# EAGLE library part NEW_LCD (library osat)
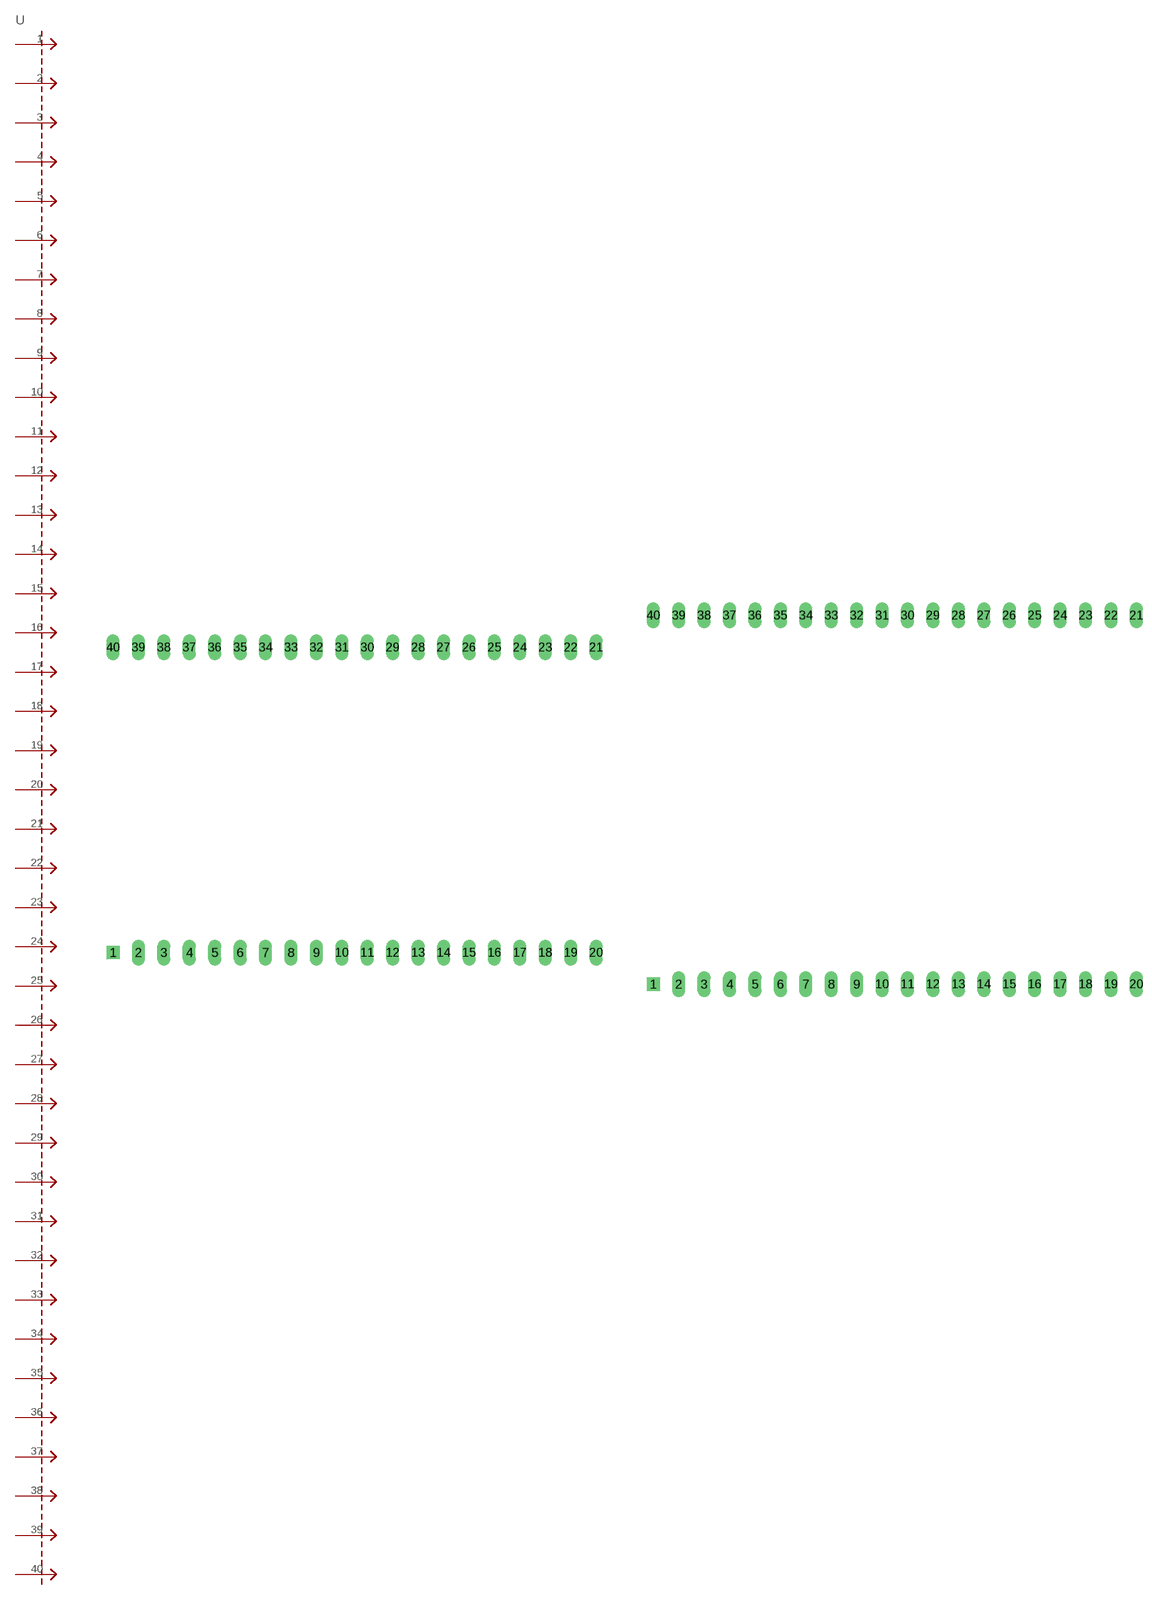
[diagram p0: symbol with the pads of NEW_LCD; footprints NEW_LCD, OLD_LCD]

Designator prefix -

## NEW_LCDNEW_LCD  [NEW_LCD]
1  P$1
2  P$2
3  P$3
4  P$4
5  P$5
6  P$6
7  P$7
8  P$8
9  P$9
10  P$10
11  P$11
12  P$12
13  P$13
14  P$14
15  P$15
16  P$16
17  P$17
18  P$18
19  P$19
20  P$20
21  P$21
22  P$22
23  P$23
24  P$24
25  P$25
26  P$26
27  P$27
28  P$28
29  P$29
30  P$30
31  P$31
32  P$32
33  P$33
34  P$34
35  P$35
36  P$36
37  P$37
38  P$38
39  P$39
40  P$40

## NEW_LCDOLD_LCD  [OLD_LCD]
Pads as for NEW_LCD

## Footprint NEW_LCD (pad centres in mm)
drill 0.8 square: 1 0,-30.48
drill 0.8 long: 2 2.54,-30.48; 3 5.08,-30.48; 4 7.62,-30.48; 5 10.16,-30.48; 6 12.7,-30.48; 7 15.24,-30.48; 8 17.78,-30.48; 9 20.32,-30.48; 10 22.86,-30.48; 11 25.4,-30.48; 12 27.94,-30.48; 13 30.48,-30.48; 14 33.02,-30.48; 15 35.56,-30.48; 16 38.1,-30.48; 17 40.64,-30.48; 18 43.18,-30.48; 19 45.72,-30.48; 20 48.26,-30.48; 21 48.26,0; 22 45.72,0; 23 43.18,0; 24 40.64,0; 25 38.1,0; 26 35.56,0; 27 33.02,0; 28 30.48,0; 29 27.94,0; 30 25.4,0; 31 22.86,0; 32 20.32,0; 33 17.78,0; 34 15.24,0; 35 12.7,0; 36 10.16,0; 37 7.62,0; 38 5.08,0; 39 2.54,0; 40 0,0

## Footprint OLD_LCD (pad centres in mm)
drill 0.8 square: 1 0,-36.83
drill 0.8 long: 2 2.54,-36.83; 3 5.08,-36.83; 4 7.62,-36.83; 5 10.16,-36.83; 6 12.7,-36.83; 7 15.24,-36.83; 8 17.78,-36.83; 9 20.32,-36.83; 10 22.86,-36.83; 11 25.4,-36.83; 12 27.94,-36.83; 13 30.48,-36.83; 14 33.02,-36.83; 15 35.56,-36.83; 16 38.1,-36.83; 17 40.64,-36.83; 18 43.18,-36.83; 19 45.72,-36.83; 20 48.26,-36.83; 21 48.26,0; 22 45.72,0; 23 43.18,0; 24 40.64,0; 25 38.1,0; 26 35.56,0; 27 33.02,0; 28 30.48,0; 29 27.94,0; 30 25.4,0; 31 22.86,0; 32 20.32,0; 33 17.78,0; 34 15.24,0; 35 12.7,0; 36 10.16,0; 37 7.62,0; 38 5.08,0; 39 2.54,0; 40 0,0